# Altium footprint library PcbLib2.PcbLib: 45 footprints (part 2 of 3)
Each footprint in its own frame and in the unit in brackets; x right, y up, seen from the top. Pads: shape width x height; smd on the part's side, far side on the other; paste and mask are expansions set on the pad; w line width, h text height; cw(c..) or ccw(c..) is an arc to the next point about the centre after c.
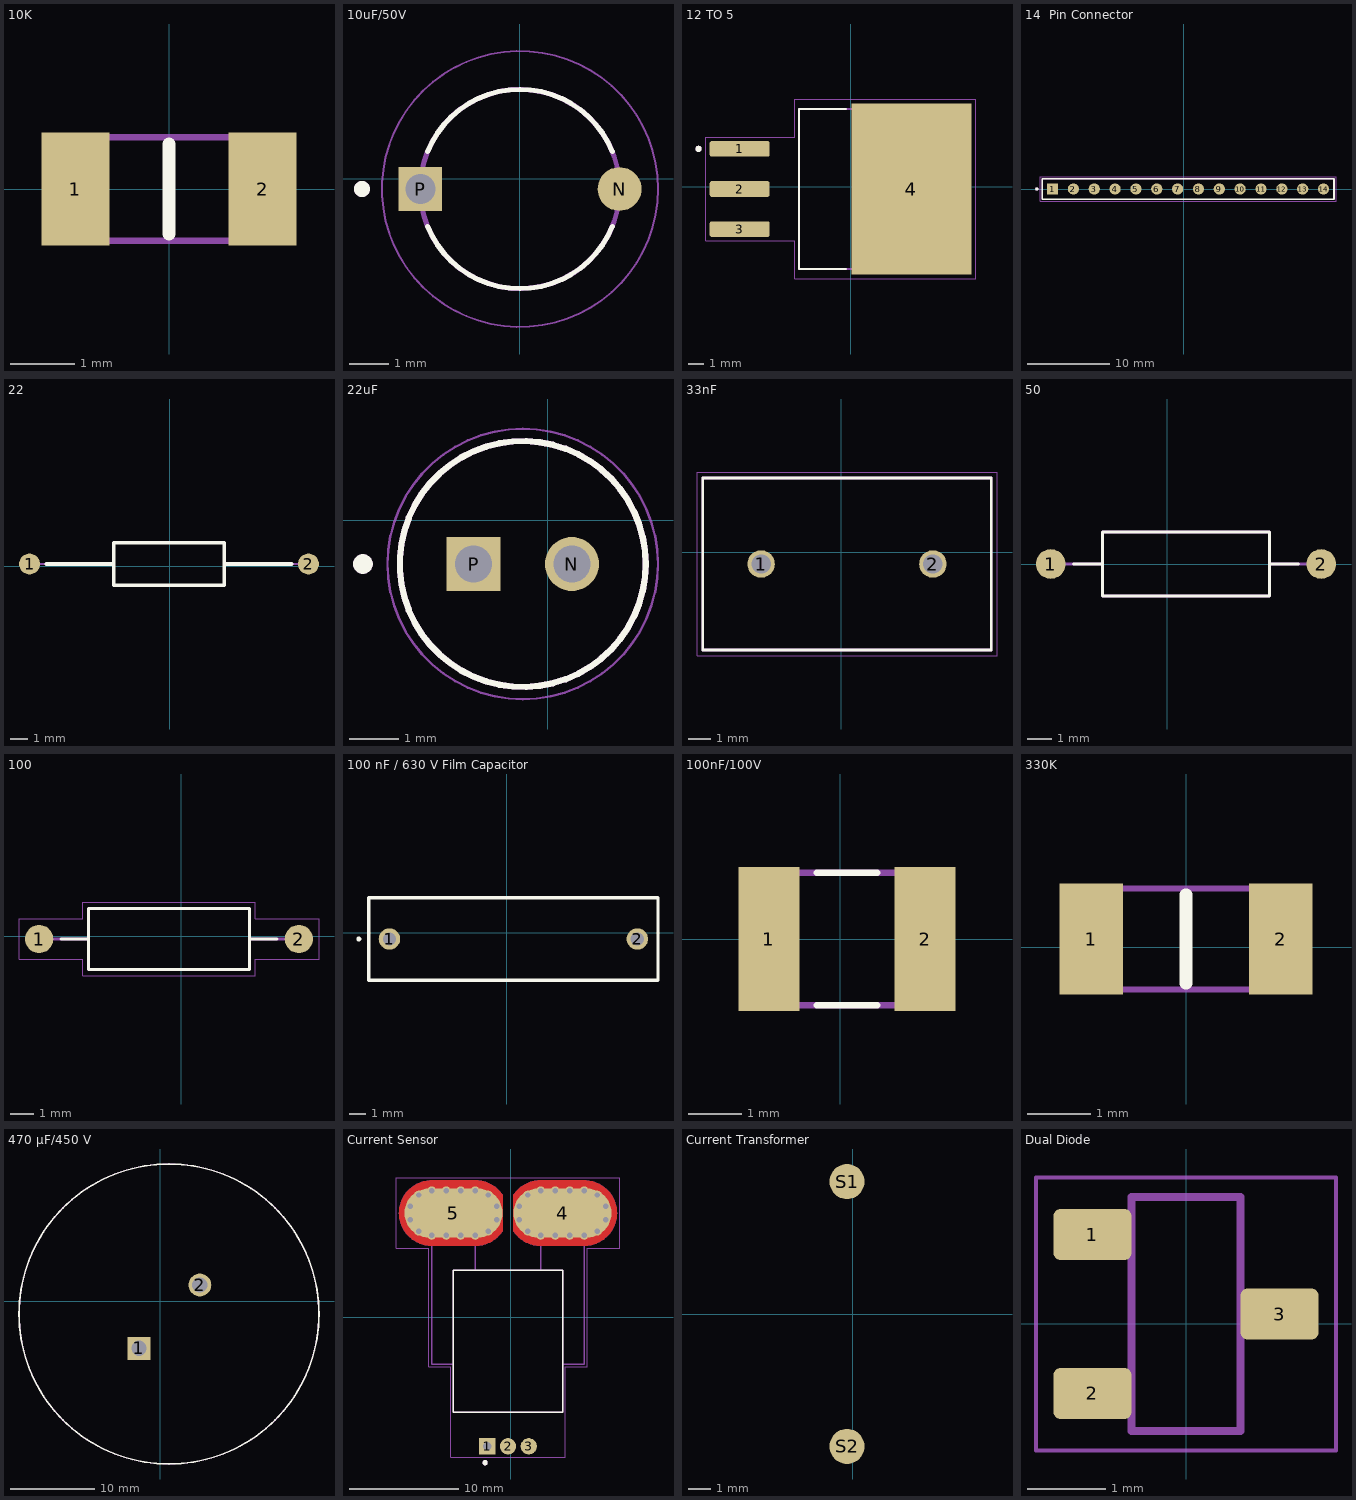
[diagram p1: the footprints below, top view; thin cyan lines are the x and y axes]

## 10K [mm] "RC1206FR-0710KL"
pads (2):
  rect 1.05x1.75 smd: 1(-1.45,0) 2(1.45,0)
Top Overlay:
  lines w0.2: 0,-0.7 0,0.7
Mechanical 15:
  lines w0.1: -1.55,-0.8 1.55,-0.8 1.55,0.8 -1.55,0.8 -1.55,-0.8
3D body "RC1206FR-0710KL.stp": height 0.65, standoff 0, extent -1.677,-0.8 1.423,0.8

## 10uF/50V [mm]
pads (2):
  round 1.1 smd: N(2.5,-0.254)
  rect 1.1x1.1 / inner round 1.1 / far side rect 1.1x1.1 hole 0.75: P(-2.5,-0.254)
Top Overlay:
  circle w0.2: c-3.963,-0.254 r0.1
  lines w0.127: -2.318,-1.191 ccw(c0,-0.254) 2.318,-1.191 ; -2.318,0.683 cw(c0,-0.254) 2.318,0.683
Mechanical 13:
  circle w0.2: c-3.963,-0.254 r0.1
  circle w0.127: c0,-0.254 r2.5
Mechanical 15:
  circle w0.05: c0,-0.254 r3.463
3D body "step_temp.STEP": height 12.5, standoff -15.5, extent -2.75,-2.752 2.75,2.244

## 12 TO 5 [mm]
pads (4):
  rrect25% 3.79x0.99 smd: 1(-7.035,2.413) 2(-7.035,-0.127) 3(-7.035,-2.667)
  rect 7.62x10.84 smd paste-6: 4(3.845,-0.127)
Top Overlay:
  circle w0.2: c-9.635,2.413 r0.1
  lines w0.127: -0.285,-5.207 -3.283,-5.207 -3.283,4.953 -0.285,4.953
Top Paste:
  region: 4.57,0.143 3.12,0.143 3.12,1.403 4.57,1.403
  region: 4.57,1.943 3.12,1.943 3.12,3.203 4.57,3.203
  region: 4.57,3.743 3.12,3.743 3.12,5.003 4.57,5.003
  region: 4.57,-1.657 3.12,-1.657 3.12,-0.397 4.57,-0.397
  region: 4.57,-3.457 3.12,-3.457 3.12,-2.197 4.57,-2.197
  region: 4.57,-5.257 3.12,-5.257 3.12,-3.997 4.57,-3.997
  region: 7.11,0.143 5.66,0.143 5.66,1.403 7.11,1.403
  region: 7.11,1.943 5.66,1.943 5.66,3.203 7.11,3.203
  region: 7.11,3.743 5.66,3.743 5.66,5.003 7.11,5.003
  region: 7.11,-1.657 5.66,-1.657 5.66,-0.397 7.11,-0.397
  region: 7.11,-3.457 5.66,-3.457 5.66,-2.197 7.11,-2.197
  region: 7.11,-5.257 5.66,-5.257 5.66,-3.997 7.11,-3.997
  region: 2.03,0.143 0.58,0.143 0.58,1.403 2.03,1.403
  region: 2.03,1.943 0.58,1.943 0.58,3.203 2.03,3.203
  region: 2.03,3.743 0.58,3.743 0.58,5.003 2.03,5.003
  region: 2.03,-1.657 0.58,-1.657 0.58,-0.397 2.03,-0.397
  region: 2.03,-3.457 0.58,-3.457 0.58,-2.197 2.03,-2.197
  region: 2.03,-5.257 0.58,-5.257 0.58,-3.997 2.03,-3.997
Mechanical 13:
  circle w0.2: c-9.635,2.413 r0.1
  lines w0.127: -3.283,-5.207 5.738,-5.207 5.738,4.953 -3.283,4.953 -3.283,-5.207
Mechanical 15:
  lines w0.05: -9.18,-3.412 -9.18,3.158 -3.533,3.158 -3.533,5.543 7.905,5.543 7.905,-5.797 -3.533,-5.797 -3.533,-3.412 -9.18,-3.412
3D body "step_temp.STEP": height 4.83, standoff -0.25, extent -8.255,-5.207 6.985,4.953

## 14  Pin Connector [mm]
pads (14):
  rect 1.37x1.37 all layers, no hole: 1(-16.002,0)
  round 1.37 all layers, no hole: 2(-13.462,0) 3(-10.922,0) 4(-8.382,0) 5(-5.842,0) 6(-3.302,0) 7(-0.762,0) 8(1.778,0) 9(4.318,0) 10(6.858,0) 11(9.398,0) 12(11.938,0) 13(14.478,0) 14(17.018,0)
Top Overlay:
  circle w0.2: c-17.922,0 r0.1
  lines w0.2: -17.272,-1.27 -17.272,1.27 18.288,1.27 18.288,-1.27 -17.272,-1.27
Mechanical 13:
  circle w0.2: c-17.922,0 r0.1
  lines w0.1: -17.272,-1.27 -17.272,1.27 ; -17.272,-1.27 18.288,-1.27 ; -17.272,-1.27 -17.272,1.27 ; -17.272,1.27 18.288,1.27 ; -17.272,1.27 18.288,1.27 ; 18.288,-1.27 18.288,1.27 ; 18.288,-1.27 18.288,1.27
Mechanical 15:
  lines w0.05: -17.522,-1.52 -17.522,1.52 18.538,1.52 18.538,-1.52 -17.522,-1.52
3D body "TSW-114-07-G-S.stp": height 8.38, standoff -2.54, extent -17.272,-1.27 18.415,1.27

## 22 [mm]
pads (2):
  round 1.2 all layers, no hole: 1(-8.001,0.127) 2(7.899,0.127)
Top Overlay:
  lines w0.2: -7.051,0.127 -3.201,0.127 ; 3.099,0.127 6.949,0.127 ; -3.201,-1.073 3.099,-1.073 3.099,1.327 -3.201,1.327 -3.201,-1.073
Mechanical 15:
  lines w0.1: -8.001,0.127 -3.201,0.127 ; 3.099,0.127 7.899,0.127 ; -3.201,-1.073 3.099,-1.073 3.099,1.327 -3.201,1.327 -3.201,-1.073
3D body "CFR-25JR-52-22R.stp": height 2.6, standoff -2.6, extent -8.301,-1.164 8.199,1.418

## 22uF [mm]
pads (2):
  round 1.1 hole 0.75: N(0.492,-0.889)
  rect 1.1x1.1 hole 0.75: P(-1.508,-0.889)
Top Overlay:
  circle w0.127: c-0.508,-0.889 r2.5
  circle w0.2: c-3.758,-0.889 r0.1
Mechanical 13:
  circle w0.127: c-0.508,-0.889 r2.5
  circle w0.2: c-3.758,-0.889 r0.1
Mechanical 15:
  circle w0.05: c-0.508,-0.889 r2.75
3D body "step_temp.STEP": height 11, standoff -17, extent -3.008,-3.387 1.992,1.609

## 33nF [mm]
pads (2):
  round 1.2 hole 0.85: 1(-3.496,-0.508) 2(4.004,-0.508)
Top Overlay:
  lines w0.127: -6.046,-4.258 -6.046,3.242 6.554,3.242 6.554,-4.258 -6.046,-4.258
Mechanical 13:
  lines w0.127: -6.046,-4.258 6.554,-4.258 6.554,3.242 -6.046,3.242 -6.046,-4.258
Mechanical 15:
  lines w0.05: -6.296,-4.508 6.804,-4.508 6.804,3.492 -6.296,3.492 -6.296,-4.508
3D body "ECW-FD2J333JB.STEP": height 15.5, standoff -5, extent -6.046,-4.258 6.554,3.242

## 50 [mm]
pads (2):
  round 1.2 all layers, no hole: 1(-4.738,0) 2(6.262,0)
Top Overlay:
  lines w0.127: -3.818,0 -2.638,0 ; 5.342,0 4.162,0 ; -2.638,0 -2.638,1.3 4.162,1.3 4.162,0 ; -2.638,0 -2.638,-1.3 4.162,-1.3 4.162,0
Mechanical 13:
  lines w0.127: -4.138,0 -2.638,0 ; 5.662,0 4.162,0 ; -2.638,0 -2.638,1.3 4.162,1.3 4.162,0 ; -2.638,0 -2.638,-1.3 4.162,-1.3 4.162,0
3D body "step_temp.STEP": height 2.4, standoff -26.95, extent -5.013,-1.2 6.537,1.2

## 100 [mm]
pads (2):
  round 1.2 all layers, no hole: 1(-6.008,-0.127) 2(4.992,-0.127)
Top Overlay:
  lines w0.127: -5.088,-0.127 -3.908,-0.127 ; 4.072,-0.127 2.892,-0.127 ; -3.908,-0.127 -3.908,-1.427 2.892,-1.427 2.892,-0.127 ; -3.908,-0.127 -3.908,1.173 2.892,1.173 2.892,-0.127
Mechanical 13:
  lines w0.127: -5.408,-0.127 -3.908,-0.127 ; 4.392,-0.127 2.892,-0.127 ; -3.908,-0.127 -3.908,-1.427 2.892,-1.427 2.892,-0.127 ; -3.908,-0.127 -3.908,1.173 2.892,1.173 2.892,-0.127
Mechanical 15:
  lines w0.05: -6.858,-0.977 -6.858,0.723 -4.158,0.723 -4.158,1.423 3.142,1.423 3.142,0.723 5.842,0.723 5.842,-0.977 3.142,-0.977 3.142,-1.677 -4.158,-1.677 -4.158,-0.977 -6.858,-0.977
3D body "step_temp.STEP": height 2.4, standoff -26.95, extent -6.283,-1.327 5.267,1.073

## 100 nF / 630 V Film Capacitor [mm] "ECW-FE2J104JA"
pads (2):
  round 1.3 hole 0.8: 1(-7.112,-0.381) 2(7.888,-0.381)
Top Overlay:
  lines w0.2: -9.012,-0.381 ccw(c-8.962,-0.381) -8.912,-0.381 ; -9.012,-0.381 cw(c-8.962,-0.381) -8.912,-0.381 ; -9.012,-0.381 -8.912,-0.381 ; -8.362,-2.881 9.138,-2.881 9.138,2.119 -8.362,2.119 -8.362,-2.881
Mechanical 15:
  lines w0.1: -8.362,-2.881 9.138,-2.881 9.138,2.119 -8.362,2.119 -8.362,-2.881
3D body "ECW-FE2J104JA.stp": height 11.1, standoff -5, extent -8.362,-2.881 9.138,2.119

## 100nF/100V [mm] "C1210C104K1RACAUTO"
pads (2):
  rect 1.16x2.72 smd: 1(-1.348,0) 2(1.602,0)
Top Overlay:
  lines w0.127: -0.443,-1.25 0.697,-1.25 ; -0.443,1.25 0.697,1.25
Mechanical 13:
  lines w0.127: -1.473,-1.25 1.727,-1.25 1.727,1.25 -1.473,1.25 -1.473,-1.25
3D body "step_temp.STEP": height 2.7, standoff 0, extent -1.473,-1.25 1.727,1.25

## 330K [mm] "RC1206FR-07330KL"
pads (2):
  rect 1x1.75 smd: 1(-1.5,0.127) 2(1.5,0.127)
Top Overlay:
  lines w0.2: 0,-0.573 0,0.827
Mechanical 15:
  lines w0.1: -1.55,-0.673 1.55,-0.673 1.55,0.927 -1.55,0.927 -1.55,-0.673
3D body "RC1206FR-07330KL.stp": height 0.65, standoff 0, extent -1.55,-0.673 1.55,0.927

## 470 µF/450 V [mm] "ELG477M450AT6AA"
pads (2):
  rect 2.7x2.7 / inner round 2.7 / far side rect 2.7x2.7 hole 1.8: 1(-2.54,-5.588)
  round 2.7 hole 1.8: 2(4.666,1.905)
Top Overlay:
  circle w0.2: c1.016,-1.524 r17.75
Mechanical 15:
  circle w0.1: c1.016,-1.524 r17.75
3D body "ELG477M450AT6AA.stp": height 53.34, standoff -5.45, extent -16.984,-19.651 19.016,16.349

## Current Sensor [mm]
pads (37):
  rect 1.5x1.5 / inner round 1.5 / far side rect 1.5x1.5 hole 0.8: 1(-2.164,-11.843)
  round 1.5 smd: 2(-0.254,-11.843) 3(1.656,-11.843)
  oval 9x4.5 smd mask+0: 4(4.746,9.557) 5(-5.254,9.557)
  round 0.8 hole 0.5: 4_1(2.746,7.507) 4_2(4.076,7.507) 4_3(5.406,7.507) 4_4(6.736,7.507) 4_5(7.951,7.899) 4_6(8.696,8.924) 4_7(8.696,10.19) 4_8(7.951,11.215) 4_9(6.736,11.607) 4_10(5.406,11.607) 4_11(4.076,11.607) 4_12(2.746,11.607) 4_13(1.541,11.215) 4_14(0.796,10.19) 4_15(0.796,8.924) 4_16(1.541,7.899) 5_1(-7.254,7.507) 5_2(-5.924,7.507) 5_3(-4.594,7.507) 5_4(-3.264,7.507) 5_5(-8.459,7.899) 5_6(-9.204,10.19) 5_7(-9.204,8.924) 5_8(-8.459,11.215) 5_9(-7.254,11.607) 5_10(-5.924,11.607) 5_11(-4.594,11.607) 5_12(-3.264,11.607) 5_13(-2.049,11.215) 5_14(-1.304,10.19) 5_15(-1.304,8.924) 5_16(-2.049,7.899)
Top Layer:
  region: 4.746,10.557 2.746,10.557 2.694,10.556 2.641,10.552 2.59,10.545 2.538,10.535 2.487,10.523 2.437,10.508 2.388,10.491 2.339,10.471 2.292,10.448 2.246,10.423 2.201,10.396 2.158,10.366 2.117,10.334 2.077,10.3 2.039,10.264 2.003,10.226 1.969,10.186 1.937,10.145 1.907,10.102 1.88,10.057 1.855,10.011 1.832,9.964 1.812,9.915 1.795,9.866 1.78,9.816 1.768,9.765 1.758,9.713 1.751,9.662 1.747,9.609 1.746,9.557 1.747,9.505 1.751,9.452 1.758,9.401 1.768,9.349 1.78,9.298 1.795,9.248 1.812,9.199 1.832,9.15 1.855,9.103 1.88,9.057 1.907,9.012 1.937,8.969 1.969,8.928 2.003,8.888 2.039,8.85 2.077,8.814 2.117,8.78 2.158,8.748 2.201,8.718 2.246,8.691 2.292,8.666 2.339,8.643 2.388,8.623 2.437,8.606 2.487,8.591 2.538,8.579 2.59,8.569 2.641,8.562 2.694,8.558 2.746,8.557 4.746,8.557 4.746,6.557 2.657,6.557 2.558,6.56 2.46,6.567 2.362,6.577 2.264,6.59 2.167,6.607 2.07,6.626 1.974,6.649 1.879,6.676 1.785,6.705 1.691,6.738 1.599,6.774 1.509,6.812 1.419,6.854 1.331,6.899 1.245,6.947 1.16,6.998 1.077,7.051 0.996,7.107 0.917,7.166 0.84,7.228 0.765,7.292 0.692,7.359 0.622,7.428 0.554,7.499 0.488,7.573 0.425,7.649 0.364,7.727 0.306,7.807 0.246,7.897 0.246,11.217 0.306,11.307 0.364,11.387 0.425,11.465 0.488,11.541 0.554,11.615 0.622,11.686 0.692,11.755 0.765,11.822 0.84,11.886 0.917,11.948 0.996,12.007 1.077,12.063 1.16,12.116 1.245,12.167 1.331,12.215 1.419,12.26 1.509,12.302 1.599,12.34 1.691,12.376 1.785,12.409 1.879,12.438 1.974,12.465 2.07,12.488 2.167,12.507 2.264,12.524 2.362,12.537 2.46,12.547 2.558,12.554 2.657,12.557 4.746,12.557
  region: 6.903,12.553 7.06,12.541 7.215,12.52 7.37,12.491 7.522,12.455 7.673,12.41 7.821,12.358 7.966,12.298 8.108,12.23 8.246,12.155 8.38,12.073 8.509,11.984 8.634,11.888 8.753,11.786 8.867,11.678 8.975,11.564 9.077,11.445 9.173,11.32 9.262,11.191 9.344,11.057 9.419,10.919 9.487,10.777 9.547,10.632 9.599,10.484 9.644,10.333 9.68,10.181 9.709,10.026 9.73,9.871 9.742,9.714 9.746,9.557 9.742,9.4 9.73,9.243 9.709,9.088 9.68,8.933 9.644,8.781 9.599,8.63 9.547,8.482 9.487,8.337 9.419,8.195 9.344,8.057 9.262,7.923 9.173,7.794 9.077,7.669 8.975,7.55 8.867,7.436 8.753,7.328 8.634,7.226 8.509,7.13 8.38,7.041 8.246,6.959 8.108,6.884 7.966,6.816 7.821,6.756 7.673,6.704 7.522,6.659 7.37,6.623 7.215,6.594 7.06,6.573 6.903,6.561 6.746,6.557 4.746,6.557 4.746,8.557 6.746,8.557 6.798,8.558 6.851,8.562 6.902,8.569 6.954,8.579 7.005,8.591 7.055,8.606 7.104,8.623 7.153,8.643 7.2,8.666 7.246,8.691 7.291,8.718 7.334,8.748 7.375,8.78 7.415,8.814 7.453,8.85 7.489,8.888 7.523,8.928 7.555,8.969 7.585,9.012 7.612,9.057 7.637,9.103 7.66,9.15 7.68,9.199 7.697,9.248 7.712,9.298 7.724,9.349 7.734,9.401 7.741,9.452 7.745,9.505 7.746,9.557 7.745,9.609 7.741,9.662 7.734,9.713 7.724,9.765 7.712,9.816 7.697,9.866 7.68,9.915 7.66,9.964 7.637,10.011 7.612,10.057 7.585,10.102 7.555,10.145 7.523,10.186 7.489,10.226 7.453,10.264 7.415,10.3 7.375,10.334 7.334,10.366 7.291,10.396 7.246,10.423 7.2,10.448 7.153,10.471 7.104,10.491 7.055,10.508 7.005,10.523 6.954,10.535 6.902,10.545 6.851,10.552 6.798,10.556 6.746,10.557 4.746,10.557 4.746,12.557 6.746,12.557
  region: -3.066,12.554 -2.968,12.547 -2.87,12.537 -2.772,12.524 -2.675,12.507 -2.578,12.488 -2.482,12.465 -2.387,12.438 -2.293,12.409 -2.199,12.376 -2.107,12.34 -2.017,12.302 -1.927,12.26 -1.839,12.215 -1.753,12.167 -1.668,12.116 -1.585,12.063 -1.504,12.007 -1.425,11.948 -1.348,11.886 -1.273,11.822 -1.2,11.755 -1.13,11.686 -1.062,11.615 -0.996,11.541 -0.933,11.465 -0.872,11.387 -0.814,11.307 -0.754,11.217 -0.754,7.897 -0.814,7.807 -0.872,7.727 -0.933,7.649 -0.996,7.573 -1.062,7.499 -1.13,7.428 -1.2,7.359 -1.273,7.292 -1.348,7.228 -1.425,7.166 -1.504,7.107 -1.585,7.051 -1.668,6.998 -1.753,6.947 -1.839,6.899 -1.927,6.854 -2.017,6.812 -2.107,6.774 -2.199,6.738 -2.293,6.705 -2.387,6.676 -2.482,6.649 -2.578,6.626 -2.675,6.607 -2.772,6.59 -2.87,6.577 -2.968,6.567 -3.066,6.56 -3.165,6.557 -5.254,6.557 -5.254,8.557 -3.254,8.557 -3.202,8.558 -3.149,8.562 -3.098,8.569 -3.046,8.579 -2.995,8.591 -2.945,8.606 -2.896,8.623 -2.847,8.643 -2.8,8.666 -2.754,8.691 -2.709,8.718 -2.666,8.748 -2.625,8.78 -2.585,8.814 -2.547,8.85 -2.511,8.888 -2.477,8.928 -2.445,8.969 -2.415,9.012 -2.388,9.057 -2.363,9.103 -2.34,9.15 -2.32,9.199 -2.303,9.248 -2.288,9.298 -2.276,9.349 -2.266,9.401 -2.259,9.452 -2.255,9.505 -2.254,9.557 -2.255,9.609 -2.259,9.662 -2.266,9.713 -2.276,9.765 -2.288,9.816 -2.303,9.866 -2.32,9.915 -2.34,9.964 -2.363,10.011 -2.388,10.057 -2.415,10.102 -2.445,10.145 -2.477,10.186 -2.511,10.226 -2.547,10.264 -2.585,10.3 -2.625,10.334 -2.666,10.366 -2.709,10.396 -2.754,10.423 -2.8,10.448 -2.847,10.471 -2.896,10.491 -2.945,10.508 -2.995,10.523 -3.046,10.535 -3.098,10.545 -3.149,10.552 -3.202,10.556 -3.254,10.557 -5.254,10.557 -5.254,12.557 -3.165,12.557
  region: -5.254,10.557 -7.254,10.557 -7.306,10.556 -7.359,10.552 -7.41,10.545 -7.462,10.535 -7.513,10.523 -7.563,10.508 -7.612,10.491 -7.661,10.471 -7.708,10.448 -7.754,10.423 -7.799,10.396 -7.842,10.366 -7.883,10.334 -7.923,10.3 -7.961,10.264 -7.997,10.226 -8.031,10.186 -8.063,10.145 -8.093,10.102 -8.12,10.057 -8.145,10.011 -8.168,9.964 -8.188,9.915 -8.205,9.866 -8.22,9.816 -8.232,9.765 -8.242,9.713 -8.249,9.662 -8.253,9.609 -8.254,9.557 -8.253,9.505 -8.249,9.452 -8.242,9.401 -8.232,9.349 -8.22,9.298 -8.205,9.248 -8.188,9.199 -8.168,9.15 -8.145,9.103 -8.12,9.057 -8.093,9.012 -8.063,8.969 -8.031,8.928 -7.997,8.888 -7.961,8.85 -7.923,8.814 -7.883,8.78 -7.842,8.748 -7.799,8.718 -7.754,8.691 -7.708,8.666 -7.661,8.643 -7.612,8.623 -7.563,8.606 -7.513,8.591 -7.462,8.579 -7.41,8.569 -7.359,8.562 -7.306,8.558 -7.254,8.557 -5.254,8.557 -5.254,6.557 -7.254,6.557 -7.411,6.561 -7.568,6.573 -7.723,6.594 -7.878,6.623 -8.03,6.659 -8.181,6.704 -8.329,6.756 -8.474,6.816 -8.616,6.884 -8.754,6.959 -8.888,7.041 -9.017,7.13 -9.142,7.226 -9.261,7.328 -9.375,7.436 -9.483,7.55 -9.585,7.669 -9.681,7.794 -9.77,7.923 -9.852,8.057 -9.927,8.195 -9.995,8.337 -10.055,8.482 -10.107,8.63 -10.152,8.781 -10.188,8.933 -10.217,9.088 -10.238,9.243 -10.25,9.4 -10.254,9.557 -10.25,9.714 -10.238,9.871 -10.217,10.026 -10.188,10.181 -10.152,10.333 -10.107,10.484 -10.055,10.632 -9.995,10.777 -9.927,10.919 -9.852,11.057 -9.77,11.191 -9.681,11.32 -9.585,11.445 -9.483,11.564 -9.375,11.678 -9.261,11.786 -9.142,11.888 -9.017,11.984 -8.888,12.073 -8.754,12.155 -8.616,12.23 -8.474,12.298 -8.329,12.358 -8.181,12.41 -8.03,12.455 -7.878,12.491 -7.723,12.52 -7.568,12.541 -7.411,12.553 -7.254,12.557 -5.254,12.557
Bottom Layer:
  region: 4.746,10.557 2.746,10.557 2.694,10.556 2.641,10.552 2.59,10.545 2.538,10.535 2.487,10.523 2.437,10.508 2.388,10.491 2.339,10.471 2.292,10.448 2.246,10.423 2.201,10.396 2.158,10.366 2.117,10.334 2.077,10.3 2.039,10.264 2.003,10.226 1.969,10.186 1.937,10.145 1.907,10.102 1.88,10.057 1.855,10.011 1.832,9.964 1.812,9.915 1.795,9.866 1.78,9.816 1.768,9.765 1.758,9.713 1.751,9.662 1.747,9.609 1.746,9.557 1.747,9.505 1.751,9.452 1.758,9.401 1.768,9.349 1.78,9.298 1.795,9.248 1.812,9.199 1.832,9.15 1.855,9.103 1.88,9.057 1.907,9.012 1.937,8.969 1.969,8.928 2.003,8.888 2.039,8.85 2.077,8.814 2.117,8.78 2.158,8.748 2.201,8.718 2.246,8.691 2.292,8.666 2.339,8.643 2.388,8.623 2.437,8.606 2.487,8.591 2.538,8.579 2.59,8.569 2.641,8.562 2.694,8.558 2.746,8.557 4.746,8.557 4.746,6.557 2.657,6.557 2.558,6.56 2.46,6.567 2.362,6.577 2.264,6.59 2.167,6.607 2.07,6.626 1.974,6.649 1.879,6.676 1.785,6.705 1.691,6.738 1.599,6.774 1.509,6.812 1.419,6.854 1.331,6.899 1.245,6.947 1.16,6.998 1.077,7.051 0.996,7.107 0.917,7.166 0.84,7.228 0.765,7.292 0.692,7.359 0.622,7.428 0.554,7.499 0.488,7.573 0.425,7.649 0.364,7.727 0.306,7.807 0.246,7.897 0.246,11.217 0.306,11.307 0.364,11.387 0.425,11.465 0.488,11.541 0.554,11.615 0.622,11.686 0.692,11.755 0.765,11.822 0.84,11.886 0.917,11.948 0.996,12.007 1.077,12.063 1.16,12.116 1.245,12.167 1.331,12.215 1.419,12.26 1.509,12.302 1.599,12.34 1.691,12.376 1.785,12.409 1.879,12.438 1.974,12.465 2.07,12.488 2.167,12.507 2.264,12.524 2.362,12.537 2.46,12.547 2.558,12.554 2.657,12.557 4.746,12.557
  region: 6.903,12.553 7.06,12.541 7.215,12.52 7.37,12.491 7.522,12.455 7.673,12.41 7.821,12.358 7.966,12.298 8.108,12.23 8.246,12.155 8.38,12.073 8.509,11.984 8.634,11.888 8.753,11.786 8.867,11.678 8.975,11.564 9.077,11.445 9.173,11.32 9.262,11.191 9.344,11.057 9.419,10.919 9.487,10.777 9.547,10.632 9.599,10.484 9.644,10.333 9.68,10.181 9.709,10.026 9.73,9.871 9.742,9.714 9.746,9.557 9.742,9.4 9.73,9.243 9.709,9.088 9.68,8.933 9.644,8.781 9.599,8.63 9.547,8.482 9.487,8.337 9.419,8.195 9.344,8.057 9.262,7.923 9.173,7.794 9.077,7.669 8.975,7.55 8.867,7.436 8.753,7.328 8.634,7.226 8.509,7.13 8.38,7.041 8.246,6.959 8.108,6.884 7.966,6.816 7.821,6.756 7.673,6.704 7.522,6.659 7.37,6.623 7.215,6.594 7.06,6.573 6.903,6.561 6.746,6.557 4.746,6.557 4.746,8.557 6.746,8.557 6.798,8.558 6.851,8.562 6.902,8.569 6.954,8.579 7.005,8.591 7.055,8.606 7.104,8.623 7.153,8.643 7.2,8.666 7.246,8.691 7.291,8.718 7.334,8.748 7.375,8.78 7.415,8.814 7.453,8.85 7.489,8.888 7.523,8.928 7.555,8.969 7.585,9.012 7.612,9.057 7.637,9.103 7.66,9.15 7.68,9.199 7.697,9.248 7.712,9.298 7.724,9.349 7.734,9.401 7.741,9.452 7.745,9.505 7.746,9.557 7.745,9.609 7.741,9.662 7.734,9.713 7.724,9.765 7.712,9.816 7.697,9.866 7.68,9.915 7.66,9.964 7.637,10.011 7.612,10.057 7.585,10.102 7.555,10.145 7.523,10.186 7.489,10.226 7.453,10.264 7.415,10.3 7.375,10.334 7.334,10.366 7.291,10.396 7.246,10.423 7.2,10.448 7.153,10.471 7.104,10.491 7.055,10.508 7.005,10.523 6.954,10.535 6.902,10.545 6.851,10.552 6.798,10.556 6.746,10.557 4.746,10.557 4.746,12.557 6.746,12.557
  region: -3.066,12.554 -2.968,12.547 -2.87,12.537 -2.772,12.524 -2.675,12.507 -2.578,12.488 -2.482,12.465 -2.387,12.438 -2.293,12.409 -2.199,12.376 -2.107,12.34 -2.017,12.302 -1.927,12.26 -1.839,12.215 -1.753,12.167 -1.668,12.116 -1.585,12.063 -1.504,12.007 -1.425,11.948 -1.348,11.886 -1.273,11.822 -1.2,11.755 -1.13,11.686 -1.062,11.615 -0.996,11.541 -0.933,11.465 -0.872,11.387 -0.814,11.307 -0.754,11.217 -0.754,7.897 -0.814,7.807 -0.872,7.727 -0.933,7.649 -0.996,7.573 -1.062,7.499 -1.13,7.428 -1.2,7.359 -1.273,7.292 -1.348,7.228 -1.425,7.166 -1.504,7.107 -1.585,7.051 -1.668,6.998 -1.753,6.947 -1.839,6.899 -1.927,6.854 -2.017,6.812 -2.107,6.774 -2.199,6.738 -2.293,6.705 -2.387,6.676 -2.482,6.649 -2.578,6.626 -2.675,6.607 -2.772,6.59 -2.87,6.577 -2.968,6.567 -3.066,6.56 -3.165,6.557 -5.254,6.557 -5.254,8.557 -3.254,8.557 -3.202,8.558 -3.149,8.562 -3.098,8.569 -3.046,8.579 -2.995,8.591 -2.945,8.606 -2.896,8.623 -2.847,8.643 -2.8,8.666 -2.754,8.691 -2.709,8.718 -2.666,8.748 -2.625,8.78 -2.585,8.814 -2.547,8.85 -2.511,8.888 -2.477,8.928 -2.445,8.969 -2.415,9.012 -2.388,9.057 -2.363,9.103 -2.34,9.15 -2.32,9.199 -2.303,9.248 -2.288,9.298 -2.276,9.349 -2.266,9.401 -2.259,9.452 -2.255,9.505 -2.254,9.557 -2.255,9.609 -2.259,9.662 -2.266,9.713 -2.276,9.765 -2.288,9.816 -2.303,9.866 -2.32,9.915 -2.34,9.964 -2.363,10.011 -2.388,10.057 -2.415,10.102 -2.445,10.145 -2.477,10.186 -2.511,10.226 -2.547,10.264 -2.585,10.3 -2.625,10.334 -2.666,10.366 -2.709,10.396 -2.754,10.423 -2.8,10.448 -2.847,10.471 -2.896,10.491 -2.945,10.508 -2.995,10.523 -3.046,10.535 -3.098,10.545 -3.149,10.552 -3.202,10.556 -3.254,10.557 -5.254,10.557 -5.254,12.557 -3.165,12.557
  region: -5.254,10.557 -7.254,10.557 -7.306,10.556 -7.359,10.552 -7.41,10.545 -7.462,10.535 -7.513,10.523 -7.563,10.508 -7.612,10.491 -7.661,10.471 -7.708,10.448 -7.754,10.423 -7.799,10.396 -7.842,10.366 -7.883,10.334 -7.923,10.3 -7.961,10.264 -7.997,10.226 -8.031,10.186 -8.063,10.145 -8.093,10.102 -8.12,10.057 -8.145,10.011 -8.168,9.964 -8.188,9.915 -8.205,9.866 -8.22,9.816 -8.232,9.765 -8.242,9.713 -8.249,9.662 -8.253,9.609 -8.254,9.557 -8.253,9.505 -8.249,9.452 -8.242,9.401 -8.232,9.349 -8.22,9.298 -8.205,9.248 -8.188,9.199 -8.168,9.15 -8.145,9.103 -8.12,9.057 -8.093,9.012 -8.063,8.969 -8.031,8.928 -7.997,8.888 -7.961,8.85 -7.923,8.814 -7.883,8.78 -7.842,8.748 -7.799,8.718 -7.754,8.691 -7.708,8.666 -7.661,8.643 -7.612,8.623 -7.563,8.606 -7.513,8.591 -7.462,8.579 -7.41,8.569 -7.359,8.562 -7.306,8.558 -7.254,8.557 -5.254,8.557 -5.254,6.557 -7.254,6.557 -7.411,6.561 -7.568,6.573 -7.723,6.594 -7.878,6.623 -8.03,6.659 -8.181,6.704 -8.329,6.756 -8.474,6.816 -8.616,6.884 -8.754,6.959 -8.888,7.041 -9.017,7.13 -9.142,7.226 -9.261,7.328 -9.375,7.436 -9.483,7.55 -9.585,7.669 -9.681,7.794 -9.77,7.923 -9.852,8.057 -9.927,8.195 -9.995,8.337 -10.055,8.482 -10.107,8.63 -10.152,8.781 -10.188,8.933 -10.217,9.088 -10.238,9.243 -10.25,9.4 -10.254,9.557 -10.25,9.714 -10.238,9.871 -10.217,10.026 -10.188,10.181 -10.152,10.333 -10.107,10.484 -10.055,10.632 -9.995,10.777 -9.927,10.919 -9.852,11.057 -9.77,11.191 -9.681,11.32 -9.585,11.445 -9.483,11.564 -9.375,11.678 -9.261,11.786 -9.142,11.888 -9.017,11.984 -8.888,12.073 -8.754,12.155 -8.616,12.23 -8.474,12.298 -8.329,12.358 -8.181,12.41 -8.03,12.455 -7.878,12.491 -7.723,12.52 -7.568,12.541 -7.411,12.553 -7.254,12.557 -5.254,12.557
Top Overlay:
  circle w0.24: c-2.354,-13.343 r0.12
  lines w0.127: -5.254,-8.693 -5.254,4.307 4.746,4.307 4.746,-8.693 -5.254,-8.693
Top Solder:
  drawing of 4 lines, arcs and shapes, not listed
Bottom Solder:
  drawing of 4 lines, arcs and shapes, not listed
Mechanical 1:
  lines w0: -5.254,10.557 -5.204,10.557 ; 4.746,10.557 4.796,10.557
Mechanical 13:
  circle w0.24: c-2.354,-13.343 r0.12
  lines w0.127: -3.254,4.357 -3.254,9.557 -7.254,9.557 -7.254,-4.293 -5.254,-4.293 ; 2.746,4.357 2.746,9.557 6.746,9.557 6.746,-4.293 4.746,-4.293 ; -5.254,-4.293 -5.254,4.307 4.746,4.307 4.746,-8.693 -5.254,-8.693 -5.254,-4.293
Mechanical 15:
  lines w0.05: -10.504,6.307 -10.504,12.807 9.996,12.807 9.996,6.307 6.996,6.307 6.996,-4.543 4.996,-4.543 4.996,-12.843 -5.504,-12.843 -5.504,-4.543 -7.504,-4.543 -7.504,6.307 -10.504,6.307
3D body "step_temp.STEP": height 7.1, standoff -3.5, extent -7.254,-12.279 6.746,10.307

## Current Transformer [mil]
pads (2):
  round 61 smd: S1(-10,230) S2(-10,-230)
3D body "ZMCT103C--3DModel-STEP-510211.STEP": height 763.78, standoff -149.61, extent -210.79,-358.27 190.79,358.27

## Dual Diode [mm]
pads (3):
  rrect25% 1x0.65 smd: 1(-1.201,1.146) 2(-1.201,-0.894) 3(1.199,0.126)
Mechanical 13:
  lines w0.1: -0.701,-1.374 0.699,-1.374 0.699,1.626 -0.701,1.626 -0.701,-1.374
Mechanical 15:
  lines w0.05: -1.926,-1.624 1.924,-1.624 1.924,1.876 -1.926,1.876 -1.926,-1.624
3D body "p200_SOT-23.stp": height 1.3, standoff 0, extent -1.301,-1.394 1.299,1.646